# Altium schematic symbol library SchLib.SchLib: 133 symbols (part 2 of 2)
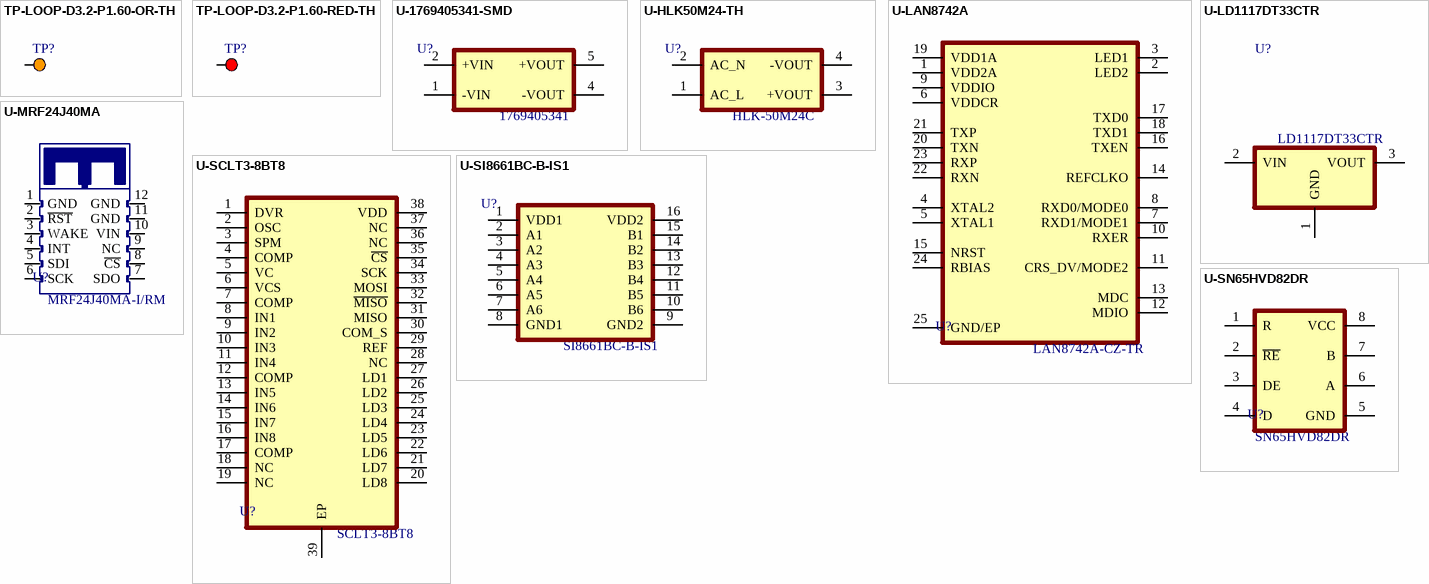
[diagram p5: symbols TP-LOOP-D3.2-P1.60-OR-TH to U-SN65HVD82DR]

## U-SCLT3-8BT8
designator U?, comment Part Number: SCLT3-8BT8  (hidden comment: I/O Controller Interface)
I/O Controller Interface IC 8-Line Protected Digital Serial; Manufacturer: STMicroelectronics; Mounting Type: SMT; Mouser Part #: 511-SCLT3-8BT8; Digikey Part #: 497-10100-5-ND; JLCPCB Part #: C1519056
footprint SOP50P640X110-39N
pins: 1 DVR, 2 OSC, 3 SPM, 4 COMP, 5 VC, 6 VCS, 7 COMP, 8 IN1, 9 IN2, 10 IN3, 11 IN4, 12 COMP, 13 IN5, 14 IN6, 15 IN7, 16 IN8, 17 COMP, 18 NC, 19 NC, 20 LD8, 21 LD7, 22 LD6, 23 LD5, 24 LD4, 25 LD3, 26 LD2, 27 LD1, 28 NC, 29 REF, 30 COM_S, 31 MISO, 32 ~{MISO}, 33 MOSI, 34 SCK, 35 ~{CS}, 36 NC, 37 NC, 38 VDD, 39 EP

## U-SI8661BC-B-IS1
designator U?, comment Part Number: SI8661BC-B-IS1  (hidden comment: Digital Isolators)
Digital Isolators 3.75 kV 5 forward & 1 reverse 6-channel isolator; Manufacturer: Skyworks; Mounting Type: SMT; Mouser Part #: 634-SI8661BC-B-IS1; Digikey Part #: 336-2120-5-ND; JLCPCB Part #: C528656
footprint SOIC127P1030X265-16N
pins: 1 VDD1, 2 A1, 3 A2, 4 A3, 5 A4, 6 A5, 7 A6, 8 GND1, 9 GND2, 10 B6, 11 B5, 12 B4, 13 B3, 14 B2, 15 B1, 16 VDD2

## U-SN65HVD82DR
designator U?, comment Part Number: SN65HVD82DR  (hidden comment: RS-485 Interface)
RS-485 Interface IC 5V-Supply; Manufacturer: Texas Instruments; Mounting Type: SMT; Mouser Part #: 595-SN65HVD82DR; Digikey Part #: 296-35043-1-ND; JLCPCB Part #: C73631
footprint SOIC127P600X175-8N
pins: 1 R, 2 ~{RE}, 3 DE, 4 D, 5 GND, 6 A, 7 B, 8 VCC

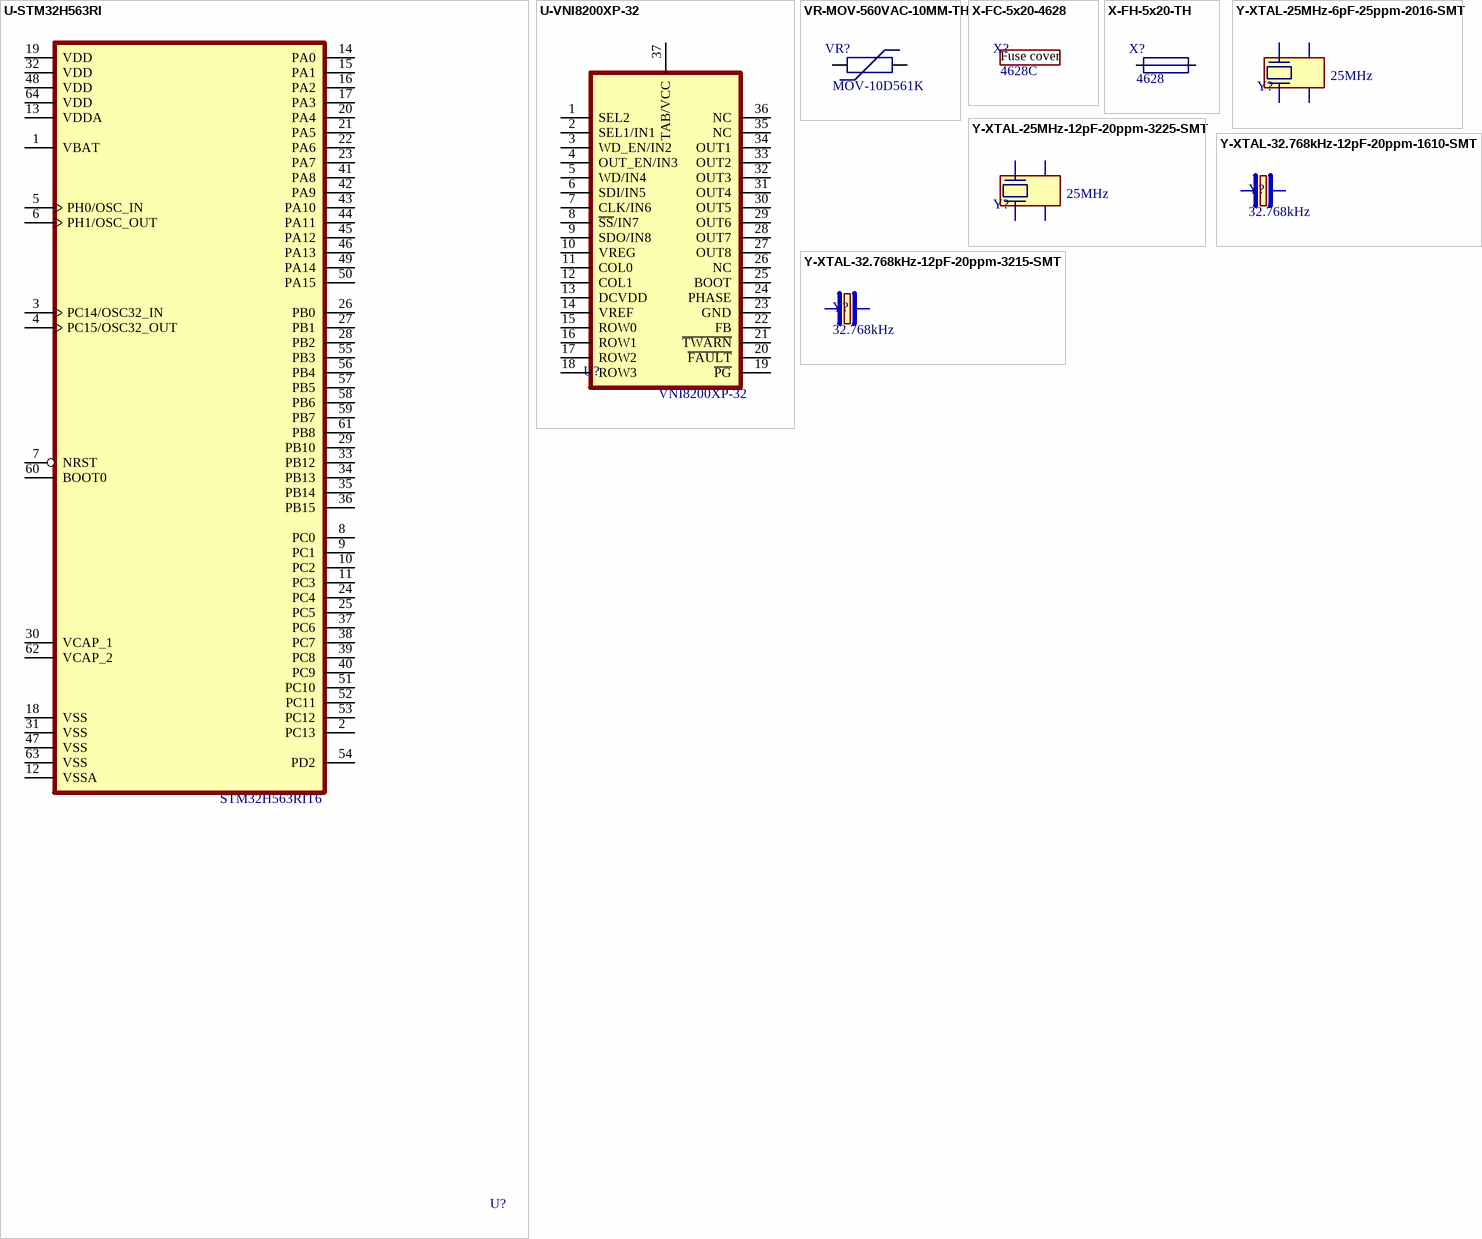
[diagram p4: symbols U-STM32H563RI to Y-XTAL-32.768kHz-12pF-20ppm-3215-SMT]

## U-STM32H563RI
designator U?, comment Part Number: STM32H563RIT6  (hidden comment: ARM Cortex M33 MCU)
ARM Microcontrollers - MCU Arm Cortex-M33 32-bit 250 MHz 2 Mbytes Flash 640KB RAM I3C, DCMI, Ethernet, SMPS; Manufacturer: STMicroelectronics; Mounting Type: SMT; Mouser Part #: 511-STM32H563RIT6; Digikey Part #: 497-STM32H563RIT6-ND; JLCPCB Part #: C20619634
footprint QFP50P1200X1200X160-64N
pins: 1 VBAT, 2 PC13, 3 PC14/OSC32_IN, 4 PC15/OSC32_OUT, 5 PH0/OSC_IN, 6 PH1/OSC_OUT, 7 NRST, 8 PC0, 9 PC1, 10 PC2, 11 PC3, 12 VSSA, 13 VDDA, 14 PA0, 15 PA1, 16 PA2, 17 PA3, 18 VSS, 19 VDD, 20 PA4, 21 PA5, 22 PA6, 23 PA7, 24 PC4, 25 PC5, 26 PB0, 27 PB1, 28 PB2, 29 PB10, 30 VCAP_1, 31 VSS, 32 VDD, 33 PB12, 34 PB13, 35 PB14, 36 PB15, 37 PC6, 38 PC7, 39 PC8, 40 PC9, 41 PA8, 42 PA9, 43 PA10, 44 PA11, 45 PA12, 46 PA13, 47 VSS, 48 VDD, 49 PA14, 50 PA15, 51 PC10, 52 PC11, 53 PC12, 54 PD2, 55 PB3, 56 PB4, 57 PB5, 58 PB6, 59 PB7, 60 BOOT0, 61 PB8, 62 VCAP_2, 63 VSS, 64 VDD

## U-VNI8200XP-32
designator U?, comment Part Number: VNI8200XP-32  (hidden comment: Power Switch ICs)
Power Switch ICs - Power Distribution 8-Ch Octal HS SSR 100mA VIPower; Manufacturer: STMicroelectronics; Mounting Type: SMT; Mouser Part #: 511-VNI8200XP-32; Digikey Part #: 497-VNI8200XP-32-ND; JLCPCB Part #: C1556834
footprint SOP50P1030X245-37N
pins: 1 SEL2, 2 SEL1/IN1, 3 WD_EN/IN2, 4 OUT_EN/IN3, 5 WD/IN4, 6 SDI/IN5, 7 CLK/IN6, 8 ~{SS}/IN7, 9 SDO/IN8, 10 VREG, 11 COL0, 12 COL1, 13 DCVDD, 14 VREF, 15 ROW0, 16 ROW1, 17 ROW2, 18 ROW3, 19 ~{PG}, 20 ~{FAULT}, 21 ~{TWARN}, 22 FB, 23 GND, 24 PHASE, 25 BOOT, 26 NC, 27 OUT8, 28 OUT7, 29 OUT6, 30 OUT5, 31 OUT4, 32 OUT3, 33 OUT2, 34 OUT1, 35 NC, 36 NC, 37 TAB/VCC

## VR-MOV-560VAC-10MM-TH
designator VR?, comment Part Number: MOV-10D561K  (hidden comment: Varistor)
Varistors 180pF 560volts 10%; Manufacturer: Bourns; Mounting Type: THT; Mouser Part #: 652-MOV-10D561K; Digikey Part #: 118-MOV-10D561K-ND; JLCPCB Part #: C78349
footprint VRD10MM7P5-02N (Radial Varistor, diameter 10mm, pitch 7.5mm, trough hole,)
pins: 1, 2

## X-FC-5x20-4628
designator X?, comment Part Number: 4628C  (hidden comment: Fuse Cover)
Fuse holder accessories retaining cover; Manufacturer: Keystone Electronics; Mounting Type: NA; Mouser Part #: 534-4628C; Digikey Part #: 36-4628C-ND; JLCPCB Part #: C17320370
text: Fuse cover

## X-FH-5x20-TH
designator X?, comment Part Number: 4628  (hidden comment: Fuse Holder)
Fuse Holder 20x5mm; Manufacturer: Keystone Electronics; Mounting Type: THT; Mouser Part #: 534-4628; Digikey Part #: 36-4628-ND; JLCPCB Part #: C22465955
footprint CONB_FH225P-N (Fuse Holder 20x5mm fuse, 22.5mm pitch)
pins: 1, 2

## Y-XTAL-25MHz-6pF-25ppm-2016-SMT
designator Y?, comment value 25MHz  (hidden comment: Crystal)
Crystals 25MHz 6pF 25ppm -10C +70C; Manufacturer: Murata Electronics; Part Number: XRCGB25M000FAN00R0; Mounting Type: SMT; Mouser Part #: 81-XRCGB25M000FAN0R0; Digikey Part #: 490-12139-1-ND; JLCPCB Part #: C1669725
footprint XTAL2016
pins: 1 IN/OUT, 2 GND, 3 OUT/IN, 4 GND

## Y-XTAL-25MHz-12pF-20ppm-3225-SMT
designator Y?, comment value 25MHz  (hidden comment: Crystal)
Crystals 25MHz 12pF 20ppm -40C +125C; Manufacturer: ECS; Part Number: ECS-250-12-33Q-JES-TR; Mounting Type: SMT; Mouser Part #: 520-250-12-33Q-JEST; Digikey Part #: XC2151CT-ND; JLCPCB Part #: C91750
footprint XTAL3225
pins: 1 IN/OUT, 2 GND, 3 OUT/IN, 4 GND

## Y-XTAL-32.768kHz-12pF-20ppm-1610-SMT
designator Y?, comment value 32.768kHz  (hidden comment: Crystal)
Crystals 32.768KHz 20ppm 12.5pF -40C +85C; Part Number: FC1610AN 32.7680KA-A3; Manufacturer: Epson Timing; Mounting Type: SMT; Mouser Part #: 732-AN32.7680KA-A3; Digikey Part #: SER4215CT-ND; JLCPCB Part #: C165064
footprint XTAL1610
pins: 1 CRYSTAL, 2 CRYSTAL

## Y-XTAL-32.768kHz-12pF-20ppm-3215-SMT
designator Y?, comment value 32.768kHz  (hidden comment: Crystal)
Crystals 32.768KHz 20ppm 12.5pF -40C +85C; Part Number: ECS-.327-12.5-34B-TR; Manufacturer: ECS; Mounting Type: SMT; Mouser Part #: 520-327-12.5-34B; Digikey Part #: 50-ECS-.327-12.5-34B-TRCT-ND; JLCPCB Part #: C32346
footprint XTAL3215
pins: 1 CRYSTAL, 2 CRYSTAL